# Altium schematic symbol library Crystals.SchLib: 34 symbols
Pins are listed as number, name and electrical type; pins without a type are passive.

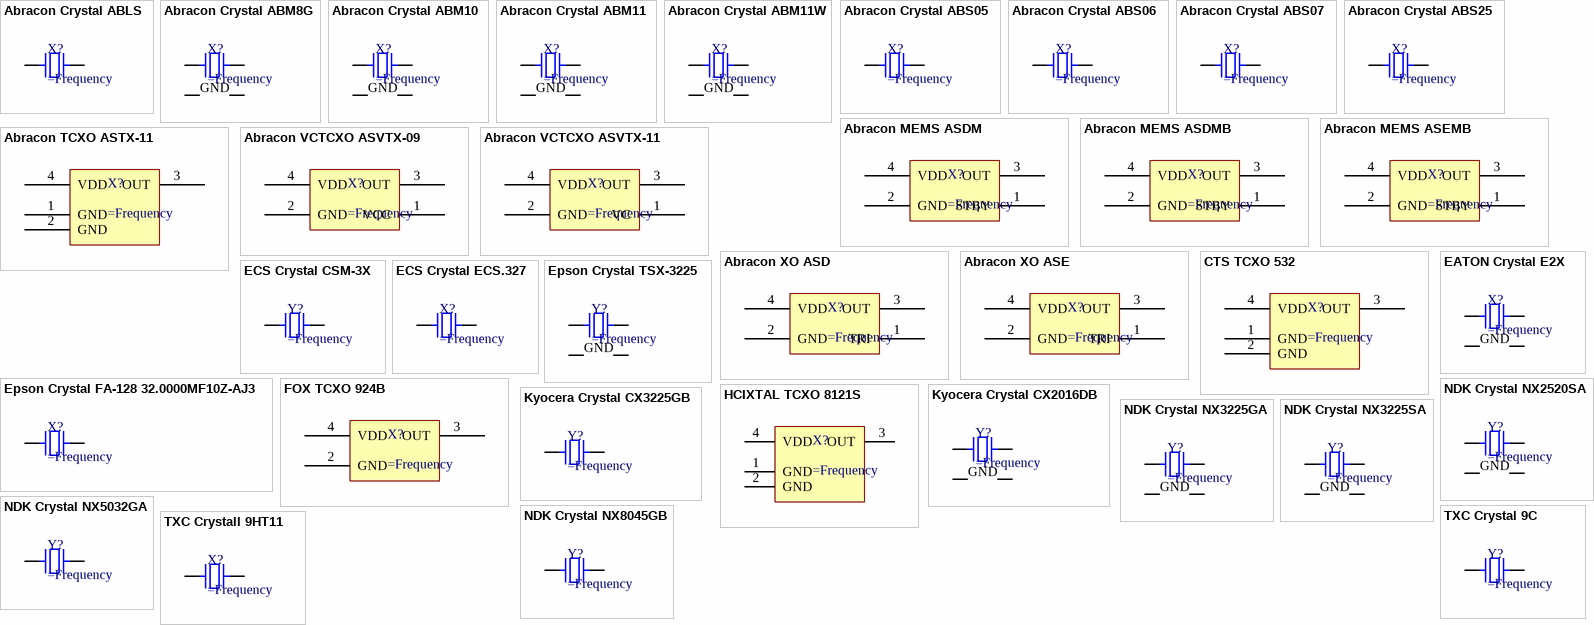
[diagram p0: symbols Abracon Crystal ABLS to TXC Crystall 9HT11]

## Abracon Crystal ABLS
designator X?
SMT Crystal
footprint ABRACON ABLS (Crystal, 2-Leads, Body 4.70x11.40mm, Pitch 8.80mm, IPC Medium Density)
pins: 1, 2

## Abracon Crystal ABM8G
designator X?
SMT Crystal
footprint ABRACON ABM8G (Crystal, 4-Leads, Body 2.50x3.20mm, Pitch 2.20mm, IPC Medium Density)
pins: 1, 2 GND, 3, 4 GND

## Abracon Crystal ABM10
designator X?
SMT Crystal
footprint ABRACON ABM10 (Crystal, 4-Leads, Body 2.00x2.45mm, Pitch 1.65mm, IPC Medium Density)
pins: 1, 2 GND, 3, 4 GND

## Abracon Crystal ABM11
designator X?
SMT Crystal
footprint ABRACON ABM11 (Crystal, 4-Leads, Body 2.00x1.6mm, Pitch 0.59mm, IPC Medium Density)
pins: 1, 2 GND, 3, 4 GND

## Abracon Crystal ABM11W
designator X?
SMT Crystal
footprint ABRACON ABM11W (Crystal, 4-Leads, Body 2.00x1.6mm, Pitch 0.5mm, IPC Medium Density)
pins: 1, 2 GND, 3, 4 GND

## Abracon Crystal ABS05
designator X?
SMT Crystal
footprint ABRACON ABS05 (Crystal, 2-Leads, Body 1.6x1mm, Pitch 1.1mm, IPC Medium Density)
pins: 1, 2

## Abracon Crystal ABS06
designator X?
SMT Crystal
footprint ABRACON ABS06 (Crystal, 2-Leads, Body 1.20x2.00mm, Pitch 1.50mm, IPC Medium Density)
pins: 1, 2

## Abracon Crystal ABS07
designator X?
SMT Crystal
footprint ABRACON ABS07 (Crystal, 2-Leads, Body 3.20x1.50mm, IPC Medium Density)
pins: 1, 2

## Abracon Crystal ABS25
designator X?
SMT Crystal
footprint ABRACON ABS25
pins: 1, 2

## Abracon MEMS ASDM
designator X?
Pure Silicon Clock Oscillator
footprint ABRACON ASDM (MEMS Clock, 4-Leads, Body 2.00x2.50mm, Pitch 1.65mm, IPC Medium Density)
pins: 1 STBY, 2 GND, 3 OUT, 4 VDD

## Abracon MEMS ASDMB
designator X?
Pure Silicon Clock Oscillator
footprint ABRACON ASDMB (MEMS Clock, 4-Leads, Body 2.00x2.45mm, Pitch 1.65mm, IPC Medium Density)
pins: 1 STBY, 2 GND, 3 OUT, 4 VDD

## Abracon MEMS ASEMB
designator X?
Pure Silicon Clock Oscillator
footprint ABRACON ASEMB (MEMS Clock, 4-Leads, Body 2.50x3.20mm, Pitch 2.10mm, IPC Medium Density)
pins: 1 STBY, 2 GND, 3 OUT, 4 VDD

## Abracon TCXO ASTX-11
designator X?
SMD CMOS Crystal Oscillator
footprint Abracon ASTX-11 (Crystal, 4-Leads, Body 2.50x3.20mm, Pitch 2.38mm, IPC Medium Density)
pins: 1 GND, 2 GND, 3 OUT, 4 VDD

## Abracon VCTCXO ASVTX-09
designator X?
SMD CMOS Crystal Oscillator
footprint Abracon ASVTX-09 (XO, 4-Leads, Body 5.00x3.20mm, Pitch 3.70mm, IPC Medium Density)
pins: 1 VCC, 2 GND, 3 OUT, 4 VDD

## Abracon VCTCXO ASVTX-11
designator X?
SMD CMOS Crystal Oscillator
footprint Abracon ASVTX-11 (Crystal, 4-Leads, Body 2.50x3.20mm, Pitch 2.38mm, IPC Medium Density)
pins: 1 VC, 2 GND, 3 OUT, 4 VDD

## Abracon XO ASD
designator X?
SMD CMOS Crystal Oscillator
footprint ABRACON ASD (Crystal, 4-Leads, Body 2.00x2.45mm, Pitch 1.65mm, IPC Medium Density)
pins: 1 TRI, 2 GND, 3 OUT, 4 VDD

## Abracon XO ASE
designator X?
SMD CMOS Crystal Oscillator
footprint ABRACON ASE (Crystal, 4-Leads, Body 2.50x3.20mm, Pitch 2.20mm, IPC Medium Density)
pins: 1 TRI, 2 GND, 3 OUT, 4 VDD

## CTS TCXO 532
designator X?
SMD TCXO
footprint CTS Model 532 (XO, 4-Leads, Body 5.00x3.20mm, Pitch 3.70mm, IPC Medium Density)
pins: 1 GND, 2 GND, 3 OUT, 4 VDD

## EATON Crystal E2X
designator X?
SMT Crystal
footprint EATON E2X (Crystal, 4-Leads, Body 2.00x2.50mm, Pitch 1.70mm, IPC Medium Density)
pins: 1, 2 GND, 3, 4 GND

## ECS Crystal CSM-3X
designator Y?
SMT Crystal
footprint ECS CSM-3X (Crystal, 2-Leads, Body 4.10x7.00mm, Pitch 5.00mm, IPC Medium Density)
pins: 1, 2

## ECS Crystal ECS.327
designator X?
SMT Crystal
footprint ECS ECS-.327
pins: 1, 2

## Epson Crystal FA-128 32.0000MF10Z-AJ3
designator X?
SMT Crystal
footprint ABRACON ABS06 (Crystal, 2-Leads, Body 1.20x2.00mm, Pitch 1.50mm, IPC Medium Density)
pins: 1, 2

## Epson Crystal TSX-3225
designator Y?
SMT Crystal
footprint EPSON TSX-3225 (Crystal, 4-Leads, Body 2.50x3.20mm, Pitch 2.20mm, IPC Medium Density)
pins: 1, 2 GND, 3, 4 GND

## FOX TCXO 924B
designator X?
SMD TCXO
footprint FOX 924 (XO, 4-Leads, Body 5.00x3.20mm, Pitch 3.70mm, IPC Medium Density)
pins: 2 GND, 3 OUT, 4 VDD

## HCIXTAL TCXO 8121S
designator X?
SMD CMOS Crystal Oscillator
footprint HCIXTAL 8121S (Crystal, 4-Leads, Body 2.50x1.65mm, Pitch 1.28mm, IPC Medium Density)
pins: 1 GND, 2 GND, 3 OUT, 4 VDD

## Kyocera Crystal CX2016DB
designator Y?
SMT Crystal
footprint KYOCERA CX2016DB (Crystal, 4-Leads, Body 1.60x2.00mm, Pitch 1.40mm, IPC Medium Density)
pins: 1, 2 GND, 3, 4 GND

## Kyocera Crystal CX3225GB
designator Y?
SMT Crystal
footprint Kyocera CX3225GB (Crystal, 4-Leads, Body 2.50x3.20mm, Pitch 2.20mm, IPC Medium Density)
pins: 1, 3

## NDK Crystal NX2520SA
designator Y?
SMT Crystal
footprint NDK NX2520SA (Crystal, 4-Leads, Body 2.00x2.50mm, Pitch 1.70mm, IPC Medium Density)
pins: 1, 2 GND, 3, 4 GND

## NDK Crystal NX3225GA
designator Y?
SMT Crystal
footprint NDK NX3225GA (Crystal, 4-Leads, Body 2.50x3.20mm, Pitch 2.20mm, IPC Medium Density)
pins: 1, 2 GND, 3, 4 GND

## NDK Crystal NX3225SA
designator Y?
SMT Crystal
footprint NDK NX3225SA (Crystal, 4-Leads, Body 2.50x3.20mm, Pitch 2.20mm, IPC Medium Density)
pins: 1, 2 GND, 3, 4 GND

## NDK Crystal NX5032GA
designator Y?
SMT Crystal
footprint NDK NX5032GA (Crystal, 2-Leads, Body 5.00x3.20mm, IPC Medium Density)
pins: 1, 2

## NDK Crystal NX8045GB
designator Y?
SMT Crystal
footprint NDK NX8045GB (Crystal, 2-Leads, Body 4.50x8.00mm, Pitch 6.50mm, IPC Medium Density)
pins: 1, 2

## TXC Crystal 9C
designator Y?
SMT Crystal
footprint TXC 9C (Crystal, 2-Leads, Body 4.70x11.40mm, Pitch 8.80mm, IPC Medium Density)
pins: 1, 2

## TXC Crystall 9HT11
designator X?
SMT Crystal
footprint TXC 9HT11 (Crystal, 2-Leads, Body 1.20x2.00mm, Pitch 1.50mm, IPC Medium Density)
pins: 1, 2